# Altium schematic symbol library AMS1117-3.3.SchLib: 1 symbol
Pins are listed as number, name and electrical type; pins without a type are passive.

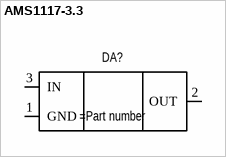
[diagram p0: symbol AMS1117-3.3]

## AMS1117-3.3
designator DA?
1A, 18-V, Ultra-Low IQ, Low-Dropout Linear Voltage Regulator / With Power-Good
pins: 1 GND, 2 OUT, 3 IN